# EAGLE library part PCA9306 (library FaBo-LevelTranslator)
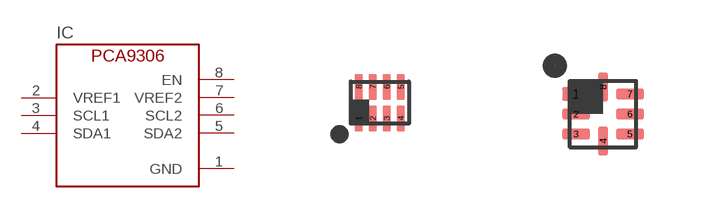
[diagram p0: symbol with the pads of X2SON; footprints X2SON, XQFN8]

Designator prefix IC

## PCA9306_DQER  [X2SON]
1  GND
2  VREF1
3  SCL1
4  SDA1
5  SDA2
6  SCL2
7  VREF2
8  EN

## PCA9306_GM  [XQFN8]
Pads as for X2SON

## PCA9306_VSSOP  [8PIN-VSSOP]
Pads as for X2SON

## PCA9306_SSOP  [8PIN-SSOP]
Pads as for X2SON

## Footprint X2SON (pad centres in mm)
smd 0.2 x 0.65: 1 -0.525,-0.395; 2 -0.175,-0.395; 3 0.175,-0.395; 4 0.525,-0.395; 5 0.525,0.395; 6 0.175,0.395; 7 -0.175,0.395; 8 -0.525,0.395

## Footprint XQFN8 (pad centres in mm)
smd 0.7 x 0.35: 1 -0.675,0.5
smd 0.7 x 0.25: 2 -0.675,0; 3 -0.675,-0.5; 5 0.675,-0.5; 6 0.675,0; 7 0.675,0.5
smd 0.25 x 0.7: 4 0,-0.675; 8 0,0.675

## Footprint 8PIN-VSSOP (pad centres in mm)
smd 0.31 x 0.81: 1 -0.75,-1.55; 2 -0.25,-1.55; 3 0.25,-1.55; 4 0.75,-1.55; 5 0.75,1.55; 6 0.25,1.55; 7 -0.25,1.55; 8 -0.75,1.55

## Footprint 8PIN-SSOP (pad centres in mm)
smd 0.3 x 1.6: 1 -0.975,-1.7; 2 -0.325,-1.7; 3 0.325,-1.7; 4 0.975,-1.7; 5 0.975,1.7; 6 0.325,1.7; 7 -0.325,1.7; 8 -0.975,1.7